# Altium footprint library PCB - ESP32 - ESP-32S.PcbLib: 1 footprints
Each footprint in its own frame and in the unit in brackets; x right, y up, seen from the top. Pads: shape width x height; smd on the part's side, far side on the other; paste and mask are expansions set on the pad; w line width, h text height; cw(c..) or ccw(c..) is an arc to the next point about the centre after c.
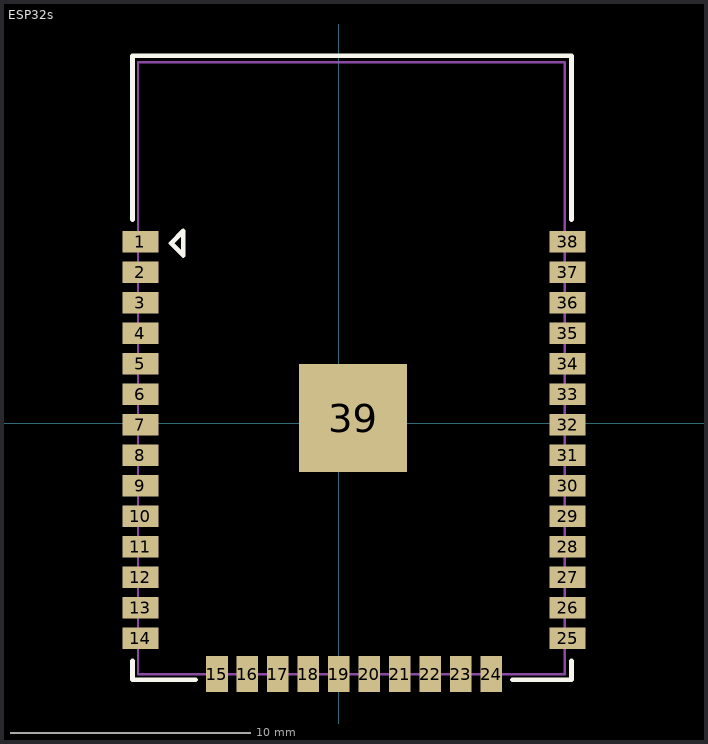
[diagram p0: the footprint, top view; thin cyan lines are the x and y axes]

## ESP32s [mm]
pads (39):
  rect 1.5x0.9 smd: 1(-8.265,7.546) 2(-8.265,6.276) 3(-8.265,5.006) 4(-8.265,3.736) 5(-8.265,2.466) 6(-8.265,1.196) 7(-8.265,-0.074) 8(-8.265,-1.344) 9(-8.265,-2.614) 10(-8.265,-3.884) 11(-8.265,-5.154) 12(-8.265,-6.424) 13(-8.265,-7.694) 14(-8.265,-8.964) 25(9.535,-8.964) 26(9.535,-7.694) 27(9.535,-6.424) 28(9.535,-5.154) 29(9.535,-3.884) 30(9.535,-2.614) 31(9.535,-1.344) 32(9.535,-0.074) 33(9.535,1.196) 34(9.535,2.466) 35(9.535,3.736) 36(9.535,5.006) 37(9.535,6.276) 38(9.535,7.546)
  rect 0.9x1.5 smd: 15(-5.075,-10.464) 16(-3.805,-10.464) 17(-2.535,-10.464) 18(-1.265,-10.464) 19(0.005,-10.464) 20(1.275,-10.464) 21(2.545,-10.464) 22(3.815,-10.464) 23(5.085,-10.464) 24(6.355,-10.464)
  rect 4.5x4.5 smd: 39(0.6,0.2)
Top Overlay:
  lines w0.2: -8.6,-9.914 -8.6,-10.7 -5.965,-10.7 ; -8.6,8.486 -8.6,15.3 9.7,15.3 9.7,8.486 ; 7.235,-10.7 9.7,-10.7 9.7,-9.914 ; -6.985,7.493 -6.477,6.985 -6.477,8.001 -6.985,7.493
Mechanical 15:
  lines w0.1: -8.365,-10.464 -8.365,15.036 9.418,15.036 9.418,-10.464 -8.365,-10.464
3D body "ESP32.STEP": height 1.84, standoff -0.01, extent -8.3,-10.45 9.5,14.85